# EAGLE library part TC_2050_IDC_TOP (library leaf)
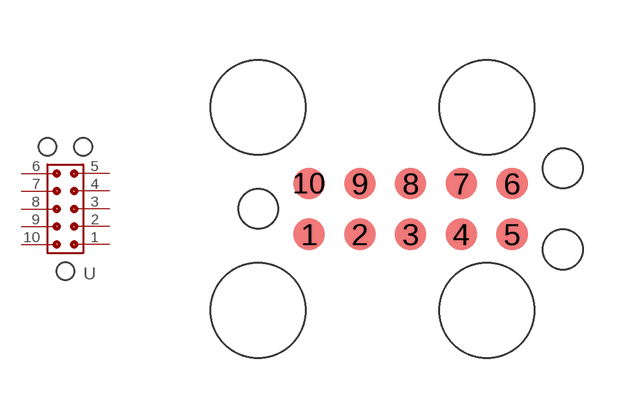
[diagram p14: symbol with the pads of TC_2050_IC_TOP; footprint TC_2050_IC_TOP]

Designator prefix -

## TC_2050_IDC_TOP  [TC_2050_IC_TOP]
1  1
2  2
3  3
4  4
5  5
6  6
7  7
8  8
9  9
10  10

## Footprint TC_2050_IC_TOP (pad centres in mm)
smd 0.787 x 0.787: 1 -2.54,-0.635; 2 -1.27,-0.635; 3 0,-0.635; 4 1.27,-0.635; 5 2.54,-0.635; 6 2.54,0.635; 7 1.27,0.635; 8 0,0.635; 9 -1.27,0.635; 10 -2.54,0.635
hole 0.991 at -3.81,0
hole 0.991 at 3.81,1.016
hole 0.991 at 3.81,-1.016
hole 2.375 at -3.81,2.54
hole 2.375 at 1.905,2.54
hole 2.375 at 1.905,-2.54
hole 2.375 at -3.81,-2.54